# Altium integrated library MiskoLIB.IntLib: 5 symbols
Pins are listed as number, name and electrical type; pins without a type are passive.

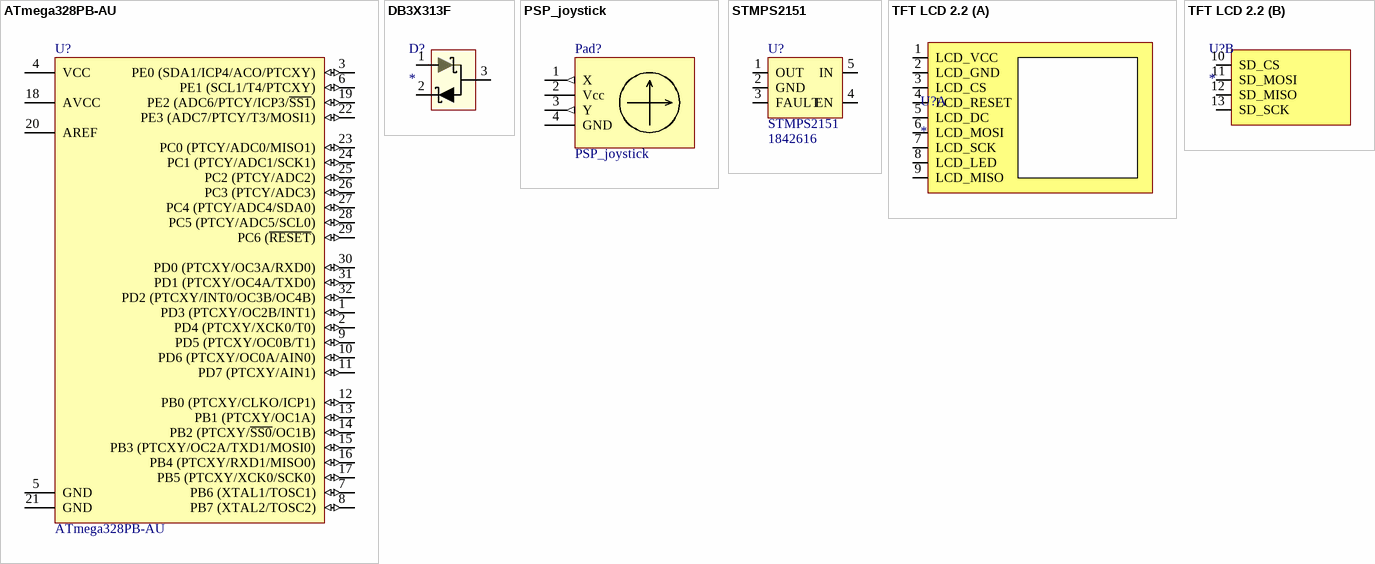
[diagram p0: symbols ATmega328PB-AU to TFT LCD 2.2]

## ATmega328PB-AU
designator U?
8-bit AVR Microcontroller, 32KB Flash, 1KB EEPROM, 2KB SRAM, 32-pin TQFP, Industrial Grade (-40°C to 85°C); DatasheetVersion: revC, Oct-2015; PackageReference: 32A; PackageDescription: 32-Lead, 7x7x1.0 mm Body, 0.8mm Lead Pitch, Thin Profile Plastic Quad Flat Package (TQFP); Code_JEDEC: MS-026-ABA; ComponentLink1Description: Manufacturer URL; ComponentLink1URL: http://www.atmel.com/; ComponentLink2Description: ATmega328PB Datasheet; ComponentLink2URL: http://www.atmel.com/Images/Atmel-42397-8-bit-AVR-Microcontroller-ATmega328PB_Datasheet.pdf; ComponentLink3Description: ATmega328P Summary; ComponentLink3URL: http://www.atmel.com/Images/Atmel-42397-8-bit-AVR-Microcontroller-ATmega328PB_Summary.pdf
footprint 32A_N (Thin QFP, 32-Leads, Body 7x7mm, Pitch 0.8mm, IPC Medium Density)
footprint 32A_L (Thin QFP, 32-Leads, Body 7x7mm, Pitch 0.8mm, IPC High Density)
footprint 32A_M (Thin QFP, 32-Leads, Body 7x7mm, Pitch 0.8mm, IPC Low Density)
pins: 1 PD3 (PTCXY/OC2B/INT1) (io), 2 PD4 (PTCXY/XCK0/T0) (io), 3 PE0 (SDA1/ICP4/ACO/PTCXY) (io), 4 VCC (power), 5 GND (power), 6 PE1 (SCL1/T4/PTCXY) (io), 7 PB6 (XTAL1/TOSC1) (io), 8 PB7 (XTAL2/TOSC2) (io), 9 PD5 (PTCXY/OC0B/T1) (io), 10 PD6 (PTCXY/OC0A/AIN0) (io), 11 PD7 (PTCXY/AIN1) (io), 12 PB0 (PTCXY/CLKO/ICP1) (io), 13 PB1 (PTCXY/OC1A) (io), 14 PB2 (PTCXY/~{SS0}/OC1B) (io), 15 PB3 (PTCXY/OC2A/TXD1/MOSI0) (io), 16 PB4 (PTCXY/RXD1/MISO0) (io), 17 PB5 (PTCXY/XCK0/SCK0) (io), 18 AVCC (power), 19 PE2 (ADC6/PTCY/ICP3/~{SS1}) (io), 20 AREF, 21 GND (power), 22 PE3 (ADC7/PTCY/T3/MOSI1) (io), 23 PC0 (PTCY/ADC0/MISO1) (io), 24 PC1 (PTCY/ADC1/SCK1) (io), 25 PC2 (PTCY/ADC2) (io), 26 PC3 (PTCY/ADC3) (io), 27 PC4 (PTCY/ADC4/SDA0) (io), 28 PC5 (PTCY/ADC5/SCL0) (io), 29 PC6 (~{RESET}) (io), 30 PD0 (PTCXY/OC3A/RXD0) (io), 31 PD1 (PTCXY/OC4A/TXD0) (io), 32 PD2 (PTCXY/INT0/OC3B/OC4B) (io)

## DB3X313F
designator D?
Schottky; Supplier 1: Farnell
footprint SOT23 (SOT23, 3-Leads, Body 2,98x2,75mm, Pitch 0,95mm, IPC Medium Density)
pins: 1 "Anode-1", 2 "Cathode-2", 3 "Cathode-1"

## PSP_joystick
designator Pad?
footprint PSP_joystick
pins: 1 X (out), 2 Vcc (power), 3 Y (out), 4 GND (power)

## STMPS2151
designator U?  Supplier Part Number 1: 1842616
switch, high-side, 0.5A, 2.7V-5.5V; Supplier 1: Farnell
footprint SOT23-5
pins: 1 OUT, 2 GND, 3 FAULT, 4 EN, 5 IN

## TFT LCD 2.2
designator U?
LCD 320x240, 65536 color, ILI3941
footprint LCD tft 2.2
part A pins: 1 LCD_VCC, 2 LCD_GND, 3 LCD_CS, 4 LCD_RESET, 5 LCD_DC, 6 LCD_MOSI, 7 LCD_SCK, 8 LCD_LED, 9 LCD_MISO
part B pins: 10 SD_CS, 11 SD_MOSI, 12 SD_MISO, 13 SD_SCK